# EAGLE library part LMR70503 (library puggleboard)
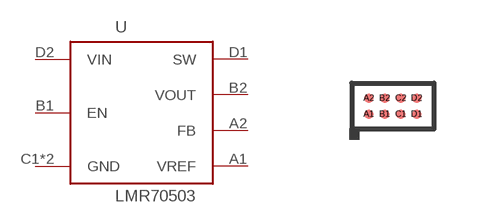
[diagram p22: symbol with the pads of 8BGA; footprint 8BGA]

Designator prefix -

## LMR70503  [8BGA]
A1  VREF  in
A2  FB  in
B1  EN  in
B2  VOUT  out
C1  GND  pas
C2  GND  pas
D1  SW  out
D2  VIN  pwr

## Footprint 8BGA (pad centres in mm)
smd 0.24 x 0.24: A1 -0.6,-0.2; A2 -0.6,0.2; B1 -0.2,-0.2; B2 -0.2,0.2; C1 0.2,-0.2; C2 0.2,0.2; D1 0.6,-0.2; D2 0.6,0.2